# EAGLE library part PIC32MX795F512H (library NBitWonder)
PIC32MX795F512H This footprint was designed with simultaneous use of the embedded Ethernet controller (in Alternate RMII Mode) with the PMP and a USB host.
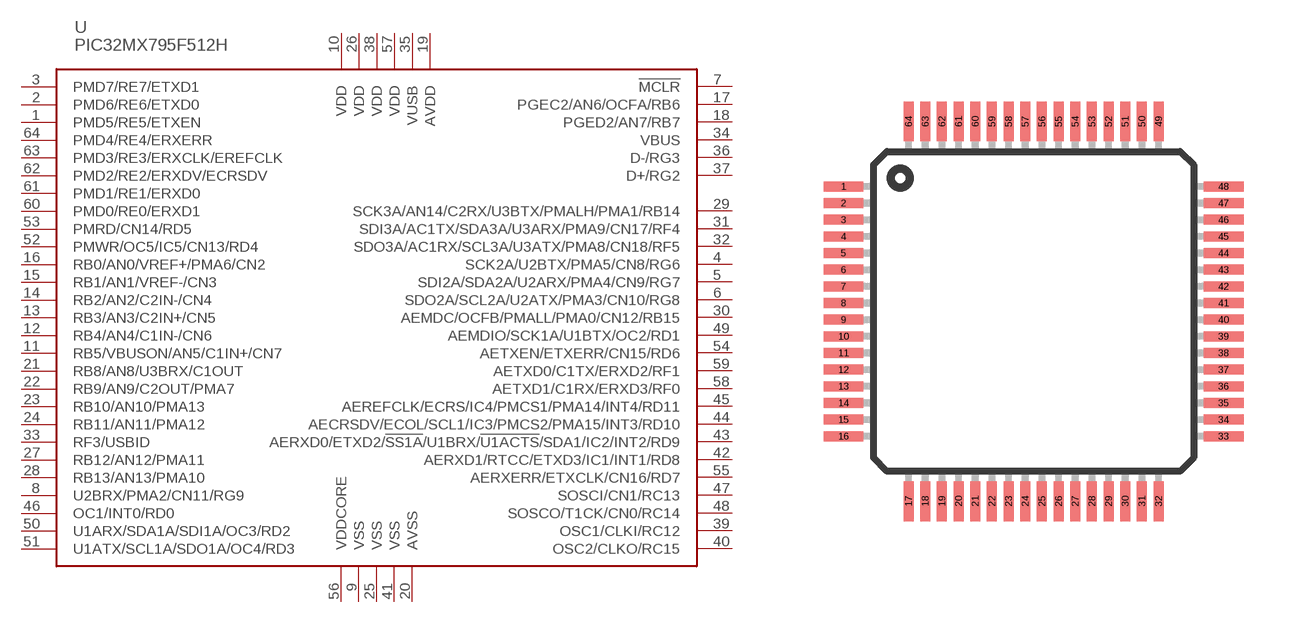
[diagram p15: symbol with the pads of TQFP64-10X10; footprint TQFP64-10X10]

Designator prefix -

## PIC32MX795F512H  [TQFP64-10X10]
1  PMD5/RE5/ETXEN
2  PMD6/RE6/ETXD0
3  PMD7/RE7/ETXD1
4  SCK2A/U2BTX/PMA5/CN8/RG6
5  SDI2A/SDA2A/U2ARX/PMA4/CN9/RG7
6  SDO2A/SCL2A/U2ATX/PMA3/CN10/RG8
7  !MCLR  in
8  U2BRX/PMA2/CN11/RG9
9  VSS  pwr
10  VDD  pwr
11  RB5/VBUSON/AN5/C1IN+/CN7
12  RB4/AN4/C1IN-/CN6
13  RB3/AN3/C2IN+/CN5
14  RB2/AN2/C2IN-/CN4
15  RB1/AN1/VREF-/CN3
16  RB0/AN0/VREF+/PMA6/CN2
17  PGEC2/AN6/OCFA/RB6
18  PGED2/AN7/RB7
19  AVDD  pwr
20  AVSS  pwr
21  RB8/AN8/U3BRX/C1OUT
22  RB9/AN9/C2OUT/PMA7
23  RB10/AN10/PMA13
24  RB11/AN11/PMA12
25  VSS  pwr
26  VDD  pwr
27  RB12/AN12/PMA11
28  RB13/AN13/PMA10
29  SCK3A/AN14/C2RX/U3BTX/PMALH/PMA1/RB14
30  AEMDC/OCFB/PMALL/PMA0/CN12/RB15
31  SDI3A/AC1TX/SDA3A/U3ARX/PMA9/CN17/RF4
32  SDO3A/AC1RX/SCL3A/U3ATX/PMA8/CN18/RF5
33  RF3/USBID
34  VBUS  in
35  VUSB  pwr
36  D-/RG3
37  D+/RG2
38  VDD  pwr
39  OSC1/CLKI/RC12
40  OSC2/CLKO/RC15
41  VSS  pwr
42  AERXD1/RTCC/ETXD3/IC1/INT1/RD8
43  AERXD0/ETXD2/!SS1A!/U1BRX/!U1ACTS!/SDA1/IC2/INT2/RD9
44  AECRSDV/ECOL/SCL1/IC3/PMCS2/PMA15/INT3/RD10
45  AEREFCLK/ECRS/IC4/PMCS1/PMA14/INT4/RD11
46  OC1/INT0/RD0
47  SOSCI/CN1/RC13
48  SOSCO/T1CK/CN0/RC14
49  AEMDIO/SCK1A/U1BTX/OC2/RD1
50  U1ARX/SDA1A/SDI1A/OC3/RD2
51  U1ATX/SCL1A/SDO1A/OC4/RD3
52  PMWR/OC5/IC5/CN13/RD4
53  PMRD/CN14/RD5
54  AETXEN/ETXERR/CN15/RD6
55  AERXERR/ETXCLK/CN16/RD7
56  VDDCORE  pwr
57  VDD  pwr
58  AETXD1/C1RX/ERXD3/RF0
59  AETXD0/C1TX/ERXD2/RF1
60  PMD0/RE0/ERXD1
61  PMD1/RE1/ERXD0
62  PMD2/RE2/ERXDV/ECRSDV
63  PMD3/RE3/ERXCLK/EREFCLK
64  PMD4/RE4/ERXERR

## Footprint TQFP64-10X10 (pad centres in mm)
Thin Quad Flat Pack package type TQ
smd 1.2 x 0.3: 1 -5.7,3.75; 2 -5.7,3.25; 3 -5.7,2.75; 4 -5.7,2.25; 5 -5.7,1.75; 6 -5.7,1.25; 7 -5.7,0.75; 8 -5.7,0.25; 9 -5.7,-0.25; 10 -5.7,-0.75; 11 -5.7,-1.25; 12 -5.7,-1.75; 13 -5.7,-2.25; 14 -5.7,-2.75; 15 -5.7,-3.25; 16 -5.7,-3.75; 33 5.7,-3.75; 34 5.7,-3.25; 35 5.7,-2.75; 36 5.7,-2.25; 37 5.7,-1.75; 38 5.7,-1.25; 39 5.7,-0.75; 40 5.7,-0.25; 41 5.7,0.25; 42 5.7,0.75; 43 5.7,1.25; 44 5.7,1.75; 45 5.7,2.25; 46 5.7,2.75; 47 5.7,3.25; 48 5.7,3.75
smd 0.3 x 1.2: 17 -3.75,-5.7; 18 -3.25,-5.7; 19 -2.75,-5.7; 20 -2.25,-5.7; 21 -1.75,-5.7; 22 -1.25,-5.7; 23 -0.75,-5.7; 24 -0.25,-5.7; 25 0.25,-5.7; 26 0.75,-5.7; 27 1.25,-5.7; 28 1.75,-5.7; 29 2.25,-5.7; 30 2.75,-5.7; 31 3.25,-5.7; 32 3.75,-5.7; 49 3.75,5.7; 50 3.25,5.7; 51 2.75,5.7; 52 2.25,5.7; 53 1.75,5.7; 54 1.25,5.7; 55 0.75,5.7; 56 0.25,5.7; 57 -0.25,5.7; 58 -0.75,5.7; 59 -1.25,5.7; 60 -1.75,5.7; 61 -2.25,5.7; 62 -2.75,5.7; 63 -3.25,5.7; 64 -3.75,5.7